# Altium footprint library Miscellaneous Devices.PcbLib: 4 footprints
Each footprint in its own frame and in the unit in brackets; x right, y up, seen from the top. Pads: shape width x height; smd on the part's side, far side on the other; paste and mask are expansions set on the pad; w line width, h text height; cw(c..) or ccw(c..) is an arc to the next point about the centre after c.
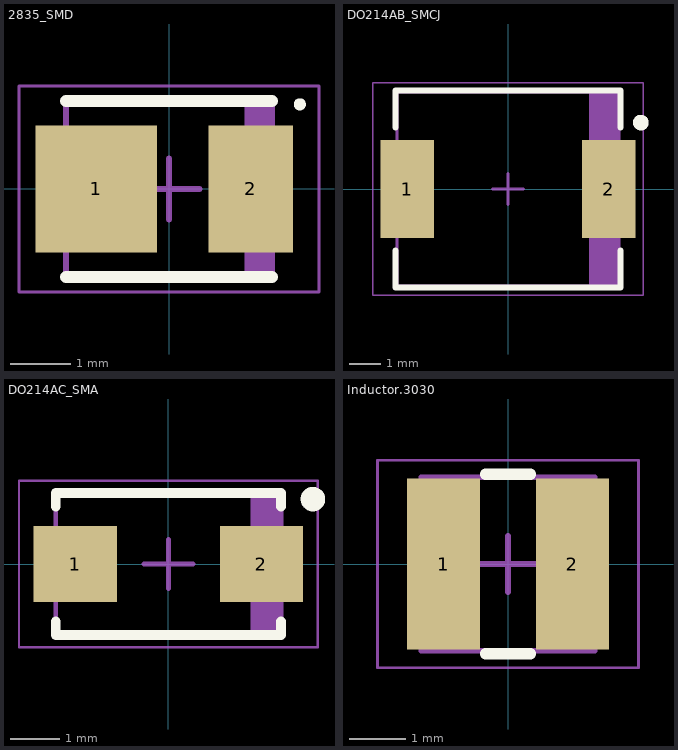
[diagram p0: the footprints below, top view; thin cyan lines are the x and y axes]

## 2835_SMD [mm] "Molded Diode, 2-Leads, Body 3.30x2.80mm, IPC Medium Density"
height 0.75
pads (2):
  rect 2x2.1 smd mask+0.05: 1(-1.2,0)
  rect 1.4x2.1 smd mask+0.05: 2(1.35,0)
Top Overlay:
  circle w0.1: c2.159,1.397 r0.05
  lines w0.2: -1.7,-1.45 1.7,-1.45 ; -1.7,1.45 1.7,1.45
Mechanical 13:
  rectangle: 1.243,-1.45 1.7,1.45
  lines w0.1: -1.7,-1.45 1.7,-1.45 1.7,1.45 -1.7,1.45 -1.7,-1.45
Mechanical 15:
  lines w0.05: -2.475,-1.7 2.475,-1.7 2.475,1.7 -2.475,1.7 -2.475,-1.7
  lines w0.1: -0.5,0 0.5,0 ; 0,-0.5 0,0.5
3D body: height 0.75, standoff 0, extent -1.7,-1.45 1.7,1.45

## DO214AB_SMCJ [mm] "Molded Diode, 2-Leads, Body 6.85x5.90mm, IPC Medium Density"
height 2.62
pads (2):
  rect 1.7x3.15 smd: 1(-3.225,0) 2(3.225,0)
Top Overlay:
  circle w0.25: c4.25,2.125 r0.125
  lines w0.2: -3.6,-1.975 -3.6,-3.15 3.6,-3.15 3.6,-1.975 ; -3.6,1.975 -3.6,3.15 3.6,3.15 3.6,1.975
Mechanical 13:
  rectangle: 2.599,-3.11 3.555,3.11
  lines w0.1: -3.555,-3.11 3.555,-3.11 3.555,3.11 -3.555,3.11 -3.555,-3.11
Mechanical 15:
  lines w0.05: -4.325,-3.4 4.325,-3.4 4.325,3.4 -4.325,3.4 -4.325,-3.4
  lines w0.1: -0.5,0 0.5,0 ; 0,-0.5 0,0.5
3D body: height 2.62, standoff 0, extent -3.555,-3.11 3.555,3.11

## DO214AC_SMA [mm] "Molded Diode, 2-Leads, Body 4.30x2.70mm, IPC Medium Density"
height 2.5
pads (2):
  rect 1.7x1.55 smd: 1(-1.9,0) 2(1.9,0)
Top Overlay:
  circle w0.25: c2.95,1.325 r0.125
  lines w0.2: -2.3,-1.175 -2.3,-1.45 2.3,-1.45 2.3,-1.175 ; -2.3,1.175 -2.3,1.45 2.3,1.45 2.3,1.175
Mechanical 13:
  rectangle: 1.681,-1.45 2.3,1.45
  lines w0.1: -2.3,-1.45 2.3,-1.45 2.3,1.45 -2.3,1.45 -2.3,-1.45
Mechanical 15:
  lines w0.05: -3.05,-1.7 3.05,-1.7 3.05,1.7 -3.05,1.7 -3.05,-1.7
  lines w0.1: -0.5,0 0.5,0 ; 0,-0.5 0,0.5
3D body: height 2.5, standoff 0, extent -2.3,-1.45 2.3,1.45

## Inductor.3030 [mm] "Molded Inductor, 2-Leads, Body 3.00x3.00mm, IPC Medium Density"
height 1.5
pads (2):
  rect 1.3x3.05 smd: 1(-1.15,0) 2(1.15,0)
Top Overlay:
  lines w0.2: -0.4,-1.6 0.4,-1.6 ; -0.4,1.6 0.4,1.6
Mechanical 13:
  lines w0.1: -1.55,-1.55 1.55,-1.55 1.55,1.55 -1.55,1.55 -1.55,-1.55
Mechanical 15:
  lines w0.05: -2.325,-1.85 2.325,-1.85 2.325,1.85 -2.325,1.85 -2.325,-1.85
  lines w0.1: -0.5,0 0.5,0 ; 0,-0.5 0,0.5
3D body: height 1.5, standoff 0, extent -1.55,-1.55 1.55,1.55